# Altium schematic symbol library IC Component.SchLib: 6 symbols
Pins are listed as number, name and electrical type; pins without a type are passive.

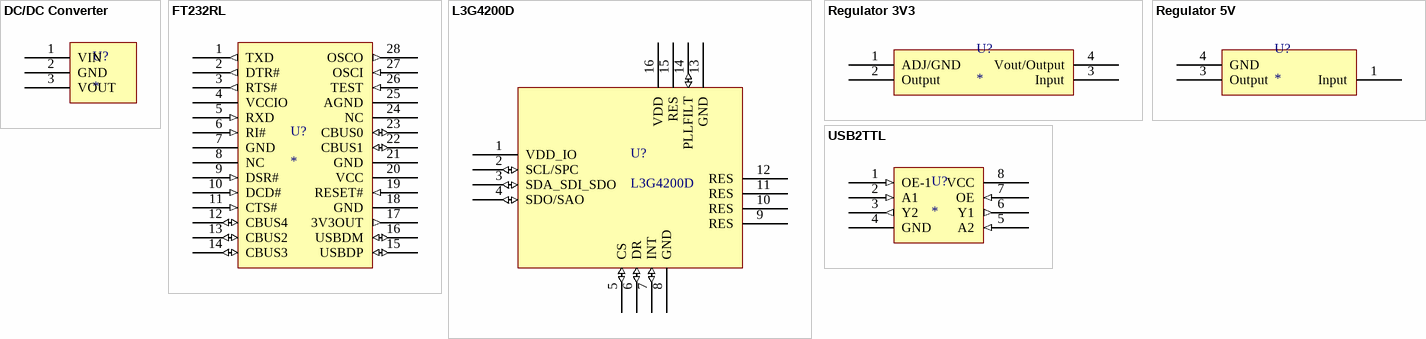
[diagram p0: symbols DC/DC Converter to USB2TTL]

## DC/DC Converter
designator U?
footprint DC/DC Converter
pins: 1 VIN (power), 2 GND (power), 3 VOUT (power)

## FT232RL
designator U?
footprint USB TO SERIAL FT232RL SOP (SOP, 28-Leads, Body 10,25x5,40mm, Pitch 0,65mm, IPC Medium Density)
pins: 1 TXD (out), 2 DTR# (out), 3 RTS# (out), 4 VCCIO (power), 5 RXD (in), 6 RI# (in), 7 GND (power), 8 NC, 9 DSR# (in), 10 DCD# (in), 11 CTS# (in), 12 CBUS4 (io), 13 CBUS2 (io), 14 CBUS3 (io), 15 USBDP (io), 16 USBDM (io), 17 3V3OUT (out), 18 GND (power), 19 RESET# (in), 20 VCC (power), 21 GND (power), 22 CBUS1 (io), 23 CBUS0 (io), 24 NC, 25 AGND (power), 26 TEST (in), 27 OSCI (in), 28 OSCO (out)

## L3G4200D
designator U?
footprint L3G4200D (QFN, 16-Leads, Body 4,00x4,00mm, Pitch 0,65mm, Thermal Pad 2,03x2,03mm, IPC Medium Density)
pins: 1 VDD_IO (power), 2 SCL/SPC (io), 3 SDA_SDI_SDO (io), 4 SDO/SAO (io), 5 CS (io), 6 DR (io), 7 INT (io), 8 GND (power), 9 RES (power), 10 RES (power), 11 RES (power), 12 RES (power), 13 GND (power), 14 PLLFILT (io), 15 RES (power), 16 VDD (power)

## Regulator 3V3
designator U?
footprint Regulator 3V3 SOT230 (SOT223, 4-Leads, Body 6,50x7,00mm (avg), Pitch 2,30mm, IPC Medium Density)
pins: 1 ADJ/GND (power), 2 Output (power), 3 Input (power), 4 Vout/Output (power)

## Regulator 5V
designator U?
footprint Regulator 5V DPAK (D-PAK, 3-Pads, Body 6,20x6,66mm (max), IPC Medium Density)
pins: 1 Input (power), 3 Output (power), 4 GND (power)

## USB2TTL
designator U?
footprint USB2TTL TSSOP (TSSOP, 8-Leads, Body 2,05x2,35mm, Pitch 0,50mm, IPC Medium Density)
pins: 1 OE-1 (in), 2 A1 (in), 3 Y2 (out), 4 GND (power), 5 A2 (in), 6 Y1 (out), 7 OE (in), 8 VCC (power)